# EAGLE library part LTC4089 (library linear_tech_opendcc)
USB Power Manager with HV Li-Ion Charger Seamless Transition Between Power Sources: Li-Ion Battery, USB, and 6V to 36V External Supply High Ef?ciency 1.2A Charger from 6V to 36V Input with Adaptive Output Control (LTC4089)
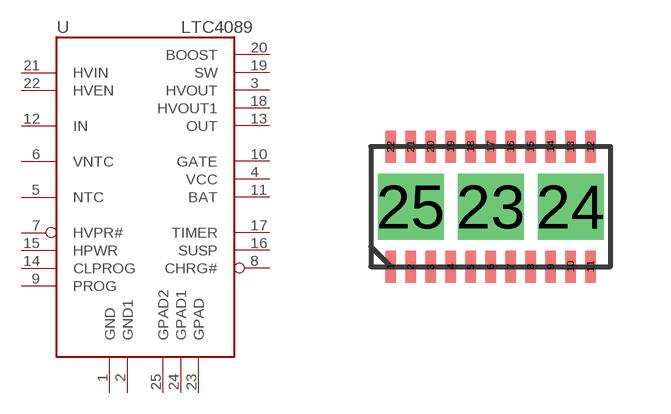
[diagram p12: symbol with the pads of DFN22-M; footprint DFN22-M]

Designator prefix -

## LTC4089  [DFN22-M]
1  GND  pwr
2  GND1  pwr
3  HVOUT  pas
4  VCC  pas
5  NTC  pas
6  VNTC  pas
7  HVPR#  pas
8  CHRG#  pas
9  PROG  pas
10  GATE  pas
11  BAT  pas
12  IN  pas
13  OUT  pas
14  CLPROG  pas
15  HPWR  pas
16  SUSP  pas
17  TIMER  pas
18  HVOUT1  pas
19  SW  pas
20  BOOST  pas
21  HVIN  pas
22  HVEN  pas
23  GPAD  pwr
24  GPAD1  pwr
25  GPAD2  pwr

## Footprint DFN22-M (pad centres in mm)
DFN22, Package with holes for center pad to be manually soldered
smd 0.26 x 0.8: 1 -2.5,-1.5; 2 -2,-1.5; 3 -1.5,-1.5; 4 -1,-1.5; 5 -0.5,-1.5; 6 0,-1.5; 7 0.5,-1.5; 8 1,-1.5; 9 1.5,-1.5; 10 2,-1.5; 11 2.5,-1.5; 12 2.5,1.5; 13 2,1.5; 14 1.5,1.5; 15 1,1.5; 16 0.5,1.5; 17 0,1.5; 18 -0.5,1.5; 19 -1,1.5; 20 -1.5,1.5; 21 -2,1.5; 22 -2.5,1.5
drill 1 pad 1.65 square: 23 0,0; 24 2,0; 25 -2,0